# Altium footprint library Connectors.PcbLib: 73 footprints (part 1 of 5)
Each footprint in its own frame and in the unit in brackets; x right, y up, seen from the top. Pads: shape width x height; smd on the part's side, far side on the other; paste and mask are expansions set on the pad; w line width, h text height; cw(c..) or ccw(c..) is an arc to the next point about the centre after c.
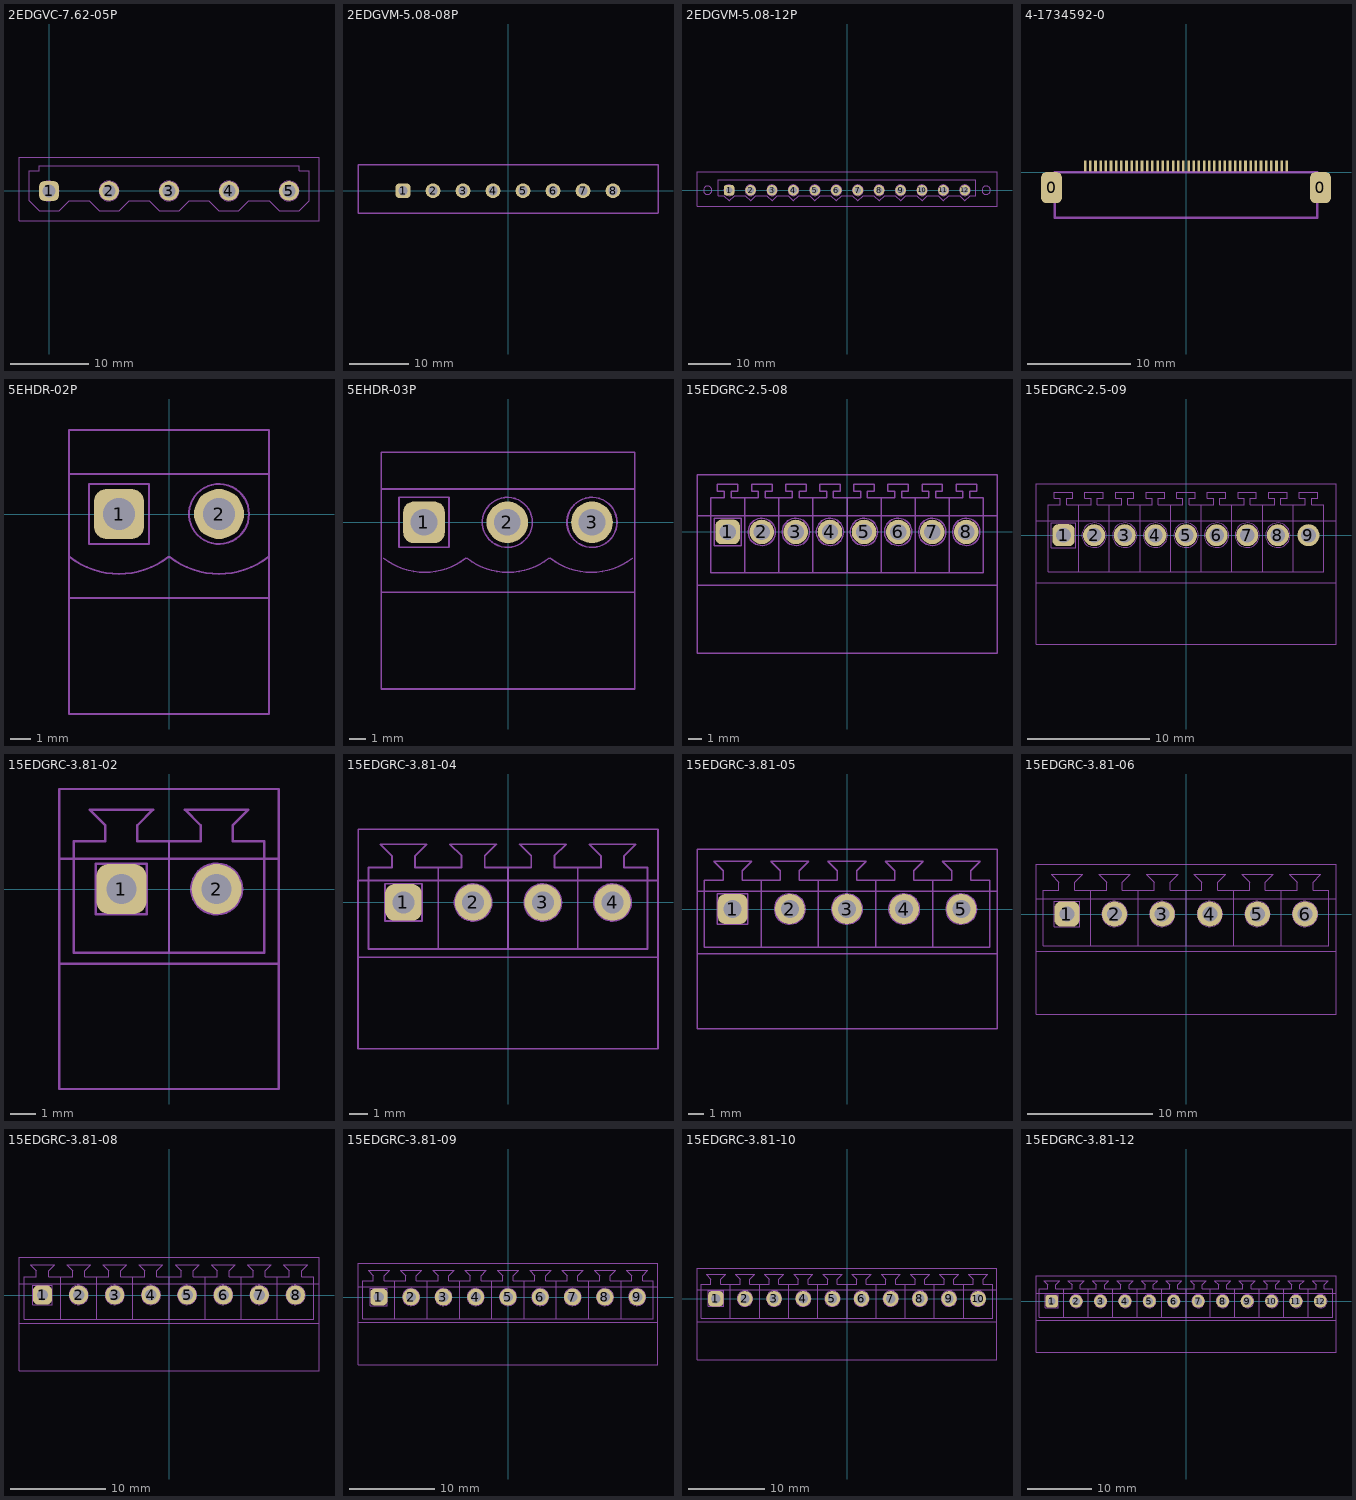
[diagram p0: the footprints below, top view; thin cyan lines are the x and y axes]

## 2EDGVC-7.62-05P [mm]
pads (5):
  rrect50% 2.5x2.5 hole 1.6: 1(0,0)
  round 2.5 hole 1.6: 2(7.62,0) 3(15.24,0) 4(22.86,0) 5(30.48,0)
Mechanical 1:
  lines w0.1: -3.81,4.3 -3.81,-3.81 34.29,-3.81 34.29,4.3 ; -3.81,4.31 34.29,4.31 ; -2.54,-1.27 -1.27,-2.54 1.27,-2.54 2.54,-1.27 5.08,-1.27 6.35,-2.54 8.89,-2.54 10.16,-1.27 12.7,-1.27 13.97,-2.54 16.51,-2.54 17.78,-1.27 20.32,-1.27 21.59,-2.54 24.13,-2.54 25.4,-1.27 27.94,-1.27 29.21,-2.54 31.75,-2.54 33.02,-1.27 33.02,2.54 31.75,2.54 31.75,3.175 -1.27,3.175 -1.27,2.54 -2.54,2.54 -2.54,-1.27
Mechanical 4:
  circle w0.1: c0,0 r1.27
  circle w0.1: c7.62,0 r1.27
  circle w0.1: c15.24,0 r1.27
  circle w0.1: c22.86,0 r1.27
  circle w0.1: c30.48,0 r1.27
3D body: height 12, standoff 0, extent 1.27,3.04 6.35,4.31
3D body: height 12, standoff 0, extent 8.89,3.04 13.97,4.31
3D body: height 12, standoff 0, extent 16.51,3.04 21.59,4.31
3D body: height 12, standoff 0, extent 24.13,3.04 29.21,4.31
3D body: height 12, standoff 0, extent -3.81,-3.81 34.3,4.3
3D body: height 10, standoff 0, extent 29.21,3.04 31.75,4.31
3D body: height 10, standoff 0, extent 21.59,3.04 24.13,4.31
3D body: height 10, standoff 0, extent 13.97,3.04 16.51,4.31
3D body: height 10, standoff 0, extent 6.35,3.04 8.89,4.31
3D body: height 10, standoff 0, extent -1.27,3.04 1.27,4.31
3D body: height 10, standoff 0, extent -0.508,-0.508 0.488,0.49
3D body: height 10, standoff 0, extent 7.112,-0.508 8.108,0.49
3D body: height 10, standoff 0, extent 14.732,-0.508 15.728,0.49
3D body: height 10, standoff 0, extent 22.352,-0.508 23.348,0.49
3D body: height 10, standoff 0, extent 29.972,-0.508 30.968,0.49

## 2EDGVM-5.08-08P [mm]
pads (8):
  rrect50% 2.5x2.5 hole 1.6: 1(-17.78,0)
  round 2.5 hole 1.6: 2(-12.7,0) 3(-7.62,0) 4(-2.54,0) 5(2.54,0) 6(7.62,0) 7(12.7,0) 8(17.78,0)
Mechanical 1:
  lines w0.254: -25.4,-3.8 25.4,-3.8 25.4,4.4 -25.4,4.4 -25.4,-3.8
3D body: height 10, standoff 0, extent -18.796,3.556 -16.764,4.318
3D body: height 10, standoff 0, extent -13.716,3.556 -11.684,4.318
3D body: height 10, standoff 0, extent -8.636,3.556 -6.604,4.318
3D body: height 10, standoff 0, extent -3.556,3.556 -1.524,4.318
3D body: height 10, standoff 0, extent 1.524,3.556 3.556,4.318
3D body: height 10, standoff 0, extent 6.604,3.556 8.636,4.318
3D body: height 10, standoff 0, extent 11.684,3.556 13.716,4.318
3D body: height 10, standoff 0, extent 16.764,3.556 18.796,4.318
3D body: height 12, standoff 0, extent -25.4,-3.81 25.4,4.318
3D body: height 12, standoff 0, extent -16.764,3.048 -13.716,4.318
3D body: height 12, standoff 0, extent -11.684,3.048 -8.636,4.318
3D body: height 12, standoff 0, extent -6.604,3.048 -3.556,4.318
3D body: height 12, standoff 0, extent -1.524,3.048 1.524,4.318
3D body: height 12, standoff 0, extent 3.556,3.048 6.604,4.318
3D body: height 12, standoff 0, extent 8.636,3.048 11.684,4.318
3D body: height 12, standoff 0, extent 13.716,3.048 16.764,4.318
3D body: height 12, standoff 0, extent 18.796,3.048 20.32,4.318
3D body: height 12, standoff 0, extent -20.32,3.048 -18.796,4.318

## 2EDGVM-5.08-12P [mm]
pads (12):
  rrect50% 2.5x2.5 hole 1.6: 1(-27.94,0)
  round 2.5 hole 1.6: 2(-22.86,0) 3(-17.78,0) 4(-12.7,0) 5(-7.62,0) 6(-2.54,0) 7(2.54,0) 8(7.62,0) 9(12.7,0) 10(17.78,0) 11(22.86,0) 12(27.94,0)
Mechanical 1:
  circle w0.1: c33.02,0 r1
  circle w0.1: c-33.02,0 r1
  lines w0.1: -35.56,-3.8 35.56,-3.8 35.56,4.4 -35.56,4.4 -35.56,-3.8 ; -30.48,-1.27 -29.21,-1.27 -27.94,-2.54 -26.67,-1.27 -24.13,-1.27 -22.86,-2.54 -21.59,-1.27 -19.05,-1.27 -17.78,-2.54 -16.51,-1.27 -13.97,-1.27 -12.7,-2.54 -11.43,-1.27 -8.89,-1.27 -7.62,-2.54 -6.35,-1.27 -3.81,-1.27 -2.54,-2.54 -1.27,-1.27 1.27,-1.27 2.54,-2.54 3.81,-1.27 6.35,-1.27 7.62,-2.54 8.89,-1.27 11.43,-1.27 12.7,-2.54 13.97,-1.27 16.51,-1.27 17.78,-2.54 19.05,-1.27 21.59,-1.27 22.86,-2.54 24.13,-1.27 26.67,-1.27 27.94,-2.54 29.21,-1.27 30.48,-1.27 30.48,2.54 -30.48,2.54 -30.48,-1.27
Mechanical 4:
  circle w0.1: c17.78,0 r1.27
  circle w0.1: c22.86,0 r1.27
  circle w0.1: c27.94,0 r1.27
  circle w0.1: c2.54,0 r1.27
  circle w0.1: c7.62,0 r1.27
  circle w0.1: c12.7,0 r1.27
  circle w0.1: c-12.7,0 r1.27
  circle w0.1: c-7.62,0 r1.27
  circle w0.1: c-2.54,0 r1.27
  circle w0.1: c-17.78,0 r1.27
  circle w0.1: c-22.86,0 r1.27
  circle w0.1: c-27.94,0 r1.27
3D body: height 12, standoff 0, extent 13.716,3.048 16.764,4.318
3D body: height 10, standoff 0, extent 16.764,3.556 18.796,4.318
3D body: height 12, standoff 0, extent 8.636,3.048 11.684,4.318
3D body: height 10, standoff 0, extent 11.684,3.556 13.716,4.318
3D body: height 12, standoff 0, extent 3.556,3.048 6.604,4.318
3D body: height 10, standoff 0, extent 6.604,3.556 8.636,4.318
3D body: height 12, standoff 0, extent -1.524,3.048 1.524,4.318
3D body: height 10, standoff 0, extent 1.524,3.556 3.556,4.318
3D body: height 10, standoff 0, extent -28.956,3.556 -26.924,4.318
3D body: height 10, standoff 0, extent -23.876,3.556 -21.844,4.318
3D body: height 10, standoff 0, extent -18.796,3.556 -16.764,4.318
3D body: height 10, standoff 0, extent -13.716,3.556 -11.684,4.318
3D body: height 10, standoff 0, extent -8.636,3.556 -6.604,4.318
3D body: height 10, standoff 0, extent -3.556,3.556 -1.524,4.318
3D body: height 10, standoff 0, extent 21.844,3.556 23.876,4.318
3D body: height 10, standoff 0, extent 26.924,3.556 28.956,4.318
3D body: height 12, standoff 0, extent -35.56,-3.81 35.56,4.445
3D body: height 12, standoff 0, extent -26.924,3.048 -23.876,4.318
3D body: height 12, standoff 0, extent -21.844,3.048 -18.796,4.318
3D body: height 12, standoff 0, extent -16.764,3.048 -13.716,4.318
3D body: height 12, standoff 0, extent -11.684,3.048 -8.636,4.318
3D body: height 12, standoff 0, extent -6.604,3.048 -3.556,4.318
3D body: height 12, standoff 0, extent 18.796,3.048 21.844,4.318
3D body: height 12, standoff 0, extent 23.876,3.048 26.924,4.318
3D body: height 12, standoff 0, extent 28.956,3.048 30.48,4.318
3D body: height 12, standoff 0, extent -30.48,3.048 -28.956,4.318

## 4-1734592-0 [mm]
pads (42):
  rrect50% 2x3 smd: 0(-13,-1.5) 0(13,-1.5)
  rect 0.25x1.1 smd: 1(-9.75,0.6) 2(-9.25,0.6) 3(-8.75,0.6) 4(-8.25,0.6) 5(-7.75,0.6) 6(-7.25,0.6) 7(-6.75,0.6) 8(-6.25,0.6) 9(-5.75,0.6) 10(-5.25,0.6) 11(-4.75,0.6) 12(-4.25,0.6) 13(-3.75,0.6) 14(-3.25,0.6) 15(-2.75,0.6) 16(-2.25,0.6) 17(-1.75,0.6) 18(-1.25,0.6) 19(-0.75,0.6) 20(-0.25,0.6) 21(0.25,0.6) 22(0.75,0.6) 23(1.25,0.6) 24(1.75,0.6) 25(2.25,0.6) 26(2.75,0.6) 27(3.25,0.6) 28(3.75,0.6) 29(4.25,0.6) 30(4.75,0.6) 31(5.25,0.6) 32(5.75,0.6) 33(6.25,0.6) 34(6.75,0.6) 35(7.25,0.6) 36(7.75,0.6) 37(8.25,0.6) 38(8.75,0.6) 39(9.25,0.6) 40(9.75,0.6)
Mechanical 1:
  lines w0.254: -12.7,-4.4 12.7,-4.4 12.7,0 -12.7,0 -12.7,-4.4
3D body: height 2, standoff 0, extent -12.7,-4.4 12.7,0

## 5EHDR-02P [mm]
pads (2):
  rrect50% 2.5x2.5 hole 1.6: 1(-2.5,0)
  round 2.5 hole 1.6: 2(2.5,0)
Mechanical 1:
  lines w0.1: -5,-4.2 5,-4.2 ; -4.963,-2.152 ccw(c-2.5,1) -0.037,-2.152 ; 0.037,-2.152 ccw(c2.5,1) 4.963,-2.152 ; -5,2 5,2 ; -5,2 -5,-10 5,-10 5,2 ; -5,2 -5,4.2 5,4.2 5,2
  text ".Designator" at -3,-6 h1
Mechanical 4:
  circle w0.1: c2.5,0 r1.5
  lines w0.1: -4,-1.5 -4,1.5 -1,1.5 -1,-1.5 -4,-1.5
3D body: height 12, standoff 7, extent -1,4.2 1,8
3D body: height 22, standoff 12, extent -5,-4.2 5,11.7
3D body: height 4.5, standoff 3.5, extent 2.004,-7.5 3,0.5
3D body: height 4.5, standoff 3.5, extent -2.996,-7.5 -2,0.5
3D body: height 4, standoff -2, extent 2.004,-0.499 3,0.499
3D body: height 4, standoff -2, extent -2.996,-0.499 -2,0.499
3D body: height 9, standoff 0, extent -5,-2 5,-1.5
3D body: height 9, standoff 0, extent -5,1.5 5,2
3D body: height 1, standoff 0, extent -5,-10 5,2
3D body: height 9, standoff 8, extent -5,-10 5,2
3D body: height 12, standoff 0, extent -5,-3.2 5,4.2

## 5EHDR-03P [mm]
pads (3):
  rrect50% 2.5x2.5 hole 1.6: 1(-5.04,0)
  round 2.5 hole 1.6: 2(-0.04,0) 3(5.04,0)
Mechanical 1:
  lines w0.1: -7.6,-4.2 7.6,-4.2 ; -7.463,-2.152 ccw(c-5,1) -2.537,-2.152 ; -2.463,-2.152 ccw(c0,1) 2.463,-2.152 ; 2.537,-2.152 ccw(c5,1) 7.463,-2.152 ; -7.6,2 -7.6,4.2 7.6,4.2 7.6,2 ; -7.6,2 7.6,2 ; -7.6,2 -7.6,-10 7.6,-10 7.6,2
  text ".Designator" at -5.54,-6 h1
Mechanical 4:
  circle w0.1: c5.04,0 r1.5
  circle w0.1: c-0.04,0 r1.5
  lines w0.1: -6.54,-1.5 -6.54,1.5 -3.54,1.5 -3.54,-1.5 -6.54,-1.5
3D body: height 12, standoff 7, extent -1,4.2 1,8
3D body: height 12, standoff 0, extent -7.6,-4.2 7.6,4.2
3D body: height 4, standoff -2, extent 4.544,-0.499 5.54,0.499
3D body: height 4.5, standoff 3.5, extent 4.544,-7.5 5.54,0.5
3D body: height 4.5, standoff 3.5, extent -0.536,-7.5 0.46,0.5
3D body: height 4.5, standoff 3.5, extent -5.536,-7.5 -4.54,0.5
3D body: height 4, standoff -2, extent -0.536,-0.499 0.46,0.499
3D body: height 4, standoff -2, extent -5.536,-0.499 -4.54,0.499
3D body: height 9, standoff 0, extent -7.54,-2 7.5,-1.5
3D body: height 9, standoff 0, extent -7.54,1.5 7.5,2
3D body: height 1, standoff 0, extent -7.54,-10 7.5,2
3D body: height 9, standoff 8, extent -7.54,-10 7.56,2
3D body: height 22, standoff 12, extent -7.6,-4.2 7.6,11.7

## 15EDGRC-2.5-08 [mm]
pads (8):
  rrect50% 1.8x1.8 hole 1.2: 1(-8.75,0)
  round 1.8 hole 1.2: 2(-6.25,0) 3(-3.75,0) 4(-1.25,0) 5(1.25,0) 6(3.75,0) 7(6.25,0) 8(8.75,0)
Mechanical 1:
  lines w0.1: -11,-3.9 11,-3.9 ; -11,1.2 11,1.2 ; -11,1.2 -11,-8.9 11,-8.9 11,1.2 ; -11,1.2 -11,4.2 ; -11,4.2 -11,4.2 ; -11,4.2 11,4.2 11,1.2 ; -7.5,-3 -10,-3 -10,2.5 -9,2.5 -9,3 -9.5,3 -9.5,3.5 -8,3.5 -8,3 -8.5,3 -8.5,2.5 -7.5,2.5 ; -7.5,-3 -7.5,2.5 ; -7.5,-3 -7.5,2.5 ; -7.5,-3 -5,-3 ; -7.5,2.5 -6.5,2.5 -6.5,3 -7,3 -7,3.5 -5.5,3.5 -5.5,3 -6,3 -6,2.5 -5,2.5 ; -5,-3 -5,2.5 ; -5,-3 -5,2.5 ; -5,-3 -2.5,-3 ; -5,2.5 -4,2.5 -4,3 -4.5,3 -4.5,3.5 -3,3.5 -3,3 -3.5,3 -3.5,2.5 -2.5,2.5 ; -2.5,-3 -2.5,2.5 ; -2.5,-3 -2.5,2.5 ; -2.5,-3 0,-3 ; -2.5,2.5 -1.5,2.5 -1.5,3 -2,3 -2,3.5 -0.5,3.5 -0.5,3 -1,3 -1,2.5 0,2.5 ; 0,-3 0,2.5 ; 0,-3 0,2.5 ; 0,-3 2.5,-3 ; 0,2.5 1,2.5 1,3 0.5,3 0.5,3.5 2,3.5 2,3 1.5,3 1.5,2.5 2.5,2.5 ; 2.5,-3 2.5,2.5 ; 2.5,-3 2.5,2.5 ; 2.5,-3 5,-3 ; 2.5,2.5 3.5,2.5 3.5,3 3,3 3,3.5 4.5,3.5 4.5,3 4,3 4,2.5 5,2.5 ; 5,-3 5,2.5 ; 5,-3 5,2.5 ; 5,-3 7.5,-3 ; 5,2.5 6,2.5 6,3 5.5,3 5.5,3.5 7,3.5 7,3 6.5,3 6.5,2.5 7.5,2.5 ; 7.5,-3 7.5,2.5 ; 7.5,-3 7.5,2.5 ; 7.5,-3 10,-3 10,2.5 9,2.5 9,3 9.5,3 9.5,3.5 8,3.5 8,3 8.5,3 8.5,2.5 7.5,2.5
Mechanical 4:
  circle w0.1: c3.75,0 r1
  circle w0.1: c1.25,0 r1
  circle w0.1: c-1.25,0 r1
  circle w0.1: c-3.75,0 r1
  circle w0.1: c-6.25,0 r1
  circle w0.1: c6.25,0 r1
  circle w0.1: c8.75,0 r1
  lines w0.1: -9.75,-1.016 -9.25,-1.016 -8.25,-1.016 -7.75,-1.016 -7.75,1.016 -9.75,1.016 -9.75,-1.016
Mechanical 13:
  text ".Designator" at -6.35,-6.985 h1
3D body: height 7, standoff 5, extent 7.3,-8.9 7.7,1.2
3D body: height 7, standoff 5, extent 4.8,-8.9 5.2,1.2
3D body: height 7, standoff 5, extent 2.3,-8.9 2.7,1.2
3D body: height 7, standoff 5, extent -7.7,-8.9 -7.3,1.2
3D body: height 7, standoff 5, extent -5.2,-8.9 -4.8,1.2
3D body: height 7, standoff 5, extent -2.7,-8.9 -2.3,1.2
3D body: height 7, standoff 1, extent 10.6,-8.9 11,1.2
3D body: height 7, standoff 1, extent -11,-8.9 -10.6,1.2
3D body: height 3.5, standoff 2.5, extent 3.25,-8 4.246,0
3D body: height 3.5, standoff 2.5, extent 0.754,-8 1.75,0
3D body: height 3.5, standoff 2.5, extent -1.75,-8 -0.754,0
3D body: height 3.5, standoff 2.5, extent -4.25,-8 -3.254,0
3D body: height 3.5, standoff 2.5, extent -6.746,-8 -5.75,0
3D body: height 3.5, standoff 2.5, extent -9.246,-8 -8.25,0
3D body: height 7, standoff 1, extent -11,0.8 11,1.2
3D body: height 7, standoff 5, extent -0.2,-8.9 0.2,1.2
3D body: height 8, standoff 7, extent -11,-8.9 11,1.2
3D body: height 1, standoff 0, extent -11,-8.9 11,1.2
3D body: height 3.5, standoff 2.5, extent 5.754,-8 6.75,0
3D body: height 3.5, standoff 2.5, extent 8.25,-8 9.246,0
3D body: height 10, standoff 0, extent -11,-3.9 11,4.2
3D body: height 25, standoff 10, extent -11,-3.9 11,7.7

## 15EDGRC-2.5-09 [mm]
pads (9):
  rrect50% 1.8x1.8 hole 1.2: 1(-10,0)
  round 1.8 hole 1.2: 2(-7.5,0) 3(-5,0) 4(-2.5,0) 5(0,0) 6(2.5,0) 7(5,0) 8(7.5,0) 9(10,0)
Mechanical 1:
  lines w0.1: -12.25,-3.9 12.25,-3.9 ; -12.25,1.2 -12.25,4.2 ; -12.25,1.2 -12.25,-8.9 12.25,-8.9 12.25,1.2 ; -12.25,1.2 12.25,1.2 ; -12.25,4.2 12.25,4.2 12.25,1.2 ; -12.25,4.2 -12.25,4.2 ; -8.75,-3 -6.25,-3 ; -8.75,-3 -8.75,2.5 ; -8.75,-3 -8.75,2.5 ; -8.75,-3 -11.25,-3 -11.25,2.5 -10.25,2.5 -10.25,3 -10.75,3 -10.75,3.5 -9.25,3.5 -9.25,3 -9.75,3 -9.75,2.5 -8.75,2.5 ; -8.75,2.5 -7.75,2.5 -7.75,3 -8.25,3 -8.25,3.5 -6.75,3.5 -6.75,3 -7.25,3 -7.25,2.5 -6.25,2.5 ; -6.25,-3 -3.75,-3 ; -6.25,-3 -6.25,2.5 ; -6.25,-3 -6.25,2.5 ; -6.25,2.5 -5.25,2.5 -5.25,3 -5.75,3 -5.75,3.5 -4.25,3.5 -4.25,3 -4.75,3 -4.75,2.5 -3.75,2.5 ; -3.75,-3 -1.25,-3 ; -3.75,-3 -3.75,2.5 ; -3.75,-3 -3.75,2.5 ; -3.75,2.5 -2.75,2.5 -2.75,3 -3.25,3 -3.25,3.5 -1.75,3.5 -1.75,3 -2.25,3 -2.25,2.5 -1.25,2.5 ; -1.25,-3 1.25,-3 ; -1.25,-3 -1.25,2.5 ; -1.25,-3 -1.25,2.5 ; -1.25,2.5 -0.25,2.5 -0.25,3 -0.75,3 -0.75,3.5 0.75,3.5 0.75,3 0.25,3 0.25,2.5 1.25,2.5 ; 1.25,-3 3.75,-3 ; 1.25,-3 1.25,2.5 ; 1.25,-3 1.25,2.5 ; 1.25,2.5 2.25,2.5 2.25,3 1.75,3 1.75,3.5 3.25,3.5 3.25,3 2.75,3 2.75,2.5 3.75,2.5 ; 3.75,-3 6.25,-3 ; 3.75,-3 3.75,2.5 ; 3.75,-3 3.75,2.5 ; 3.75,2.5 4.75,2.5 4.75,3 4.25,3 4.25,3.5 5.75,3.5 5.75,3 5.25,3 5.25,2.5 6.25,2.5 ; 6.25,-3 8.75,-3 ; 6.25,-3 6.25,2.5 ; 6.25,-3 6.25,2.5 ; 6.25,2.5 7.25,2.5 7.25,3 6.75,3 6.75,3.5 8.25,3.5 8.25,3 7.75,3 7.75,2.5 8.75,2.5 ; 8.75,-3 8.75,2.5 ; 8.75,-3 11.25,-3 11.25,2.5 10.25,2.5 10.25,3 10.75,3 10.75,3.5 9.25,3.5 9.25,3 9.75,3 9.75,2.5 8.75,2.5 ; 8.75,-3 8.75,2.5
Mechanical 4:
  circle w0.1: c7.5,0 r1
  circle w0.1: c5,0 r1
  circle w0.1: c-7.5,0 r1
  circle w0.1: c-5,0 r1
  circle w0.1: c-2.5,0 r1
  circle w0.1: c0,0 r1
  circle w0.1: c2.5,0 r1
  lines w0.1: -11,-1.016 -11,1.016 -9,1.016 -9,-1.016 -9.5,-1.016 -10.5,-1.016 -11,-1.016
Mechanical 13:
  text ".Designator" at -7.6,-6.985 h1
3D body: height 25, standoff 10, extent -12.25,-3.9 12.25,7.75
3D body: height 10, standoff 0, extent -12.25,-3.9 12.25,4.2
3D body: height 3.5, standoff 2.5, extent 7,-8 7.996,0
3D body: height 3.5, standoff 2.5, extent 4.504,-8 5.5,0
3D body: height 1, standoff 0, extent -12.25,-8.9 12.25,1.2
3D body: height 8, standoff 7, extent -12.25,-8.9 12.25,1.2
3D body: height 7, standoff 5, extent -1.45,-8.9 -1.05,1.2
3D body: height 7, standoff 1, extent -12.25,0.8 9.75,1.2
3D body: height 3.5, standoff 2.5, extent -10.496,-8 -9.5,0
3D body: height 3.5, standoff 2.5, extent -7.996,-8 -7,0
3D body: height 3.5, standoff 2.5, extent -5.5,-8 -4.504,0
3D body: height 3.5, standoff 2.5, extent -3,-8 -2.004,0
3D body: height 3.5, standoff 2.5, extent -0.496,-8 0.5,0
3D body: height 3.5, standoff 2.5, extent 2,-8 2.996,0
3D body: height 7, standoff 1, extent -12.25,-8.9 -11.85,1.2
3D body: height 7, standoff 1, extent 11.85,-8.9 12.25,1.2
3D body: height 7, standoff 5, extent -3.95,-8.9 -3.55,1.2
3D body: height 7, standoff 5, extent -6.45,-8.9 -6.05,1.2
3D body: height 7, standoff 5, extent -8.95,-8.9 -8.55,1.2
3D body: height 7, standoff 5, extent 1.05,-8.9 1.45,1.2
3D body: height 7, standoff 5, extent 3.55,-8.9 3.95,1.2
3D body: height 7, standoff 5, extent 6.05,-8.9 6.45,1.2
3D body: height 3.5, standoff 2.5, extent 9.5,-8 10.496,0
3D body: height 7, standoff 5, extent 8.55,-8.9 8.95,1.2

## 15EDGRC-3.81-02 [mm]
pads (2):
  rrect50% 2x2 hole 1.2: 1(-1.905,0)
  round 2 hole 1.2: 2(1.905,0)
Mechanical 1:
  lines w0.1: -4.4,-3 4.4,-3 ; -4.4,1.2 -4.4,4 4.4,4 4.4,1.2 ; -4.4,1.2 -4.4,-8 4.4,-8 4.4,1.2 ; -4.4,1.2 4.4,1.2 ; 0,-2.54 0,1.905 ; 0,-2.54 3.81,-2.54 3.81,1.905 2.54,1.905 2.54,2.54 3.175,3.175 0.635,3.175 1.27,2.54 1.27,1.905 0,1.905 ; 0,-2.54 -3.81,-2.54 -3.81,1.905 -2.54,1.905 -2.54,2.54 -3.175,3.175 -0.635,3.175 -1.27,2.54 -1.27,1.905 0,1.905 ; 0,-2.54 0,1.905
Mechanical 4:
  circle w0.1: c1.905,0 r1.016
  lines w0.1: -2.921,-1.016 -0.889,-1.016 -0.889,1.016 -2.921,1.016 -2.921,-1.016
Mechanical 13:
  text ".Designator" at -2.5,-6.5 h1
3D body: height 19, standoff 9, extent -4.4,-5 4.4,4.5
3D body: height 9.2, standoff 0, extent -4.4,-3 4.4,4
3D body: height 1, standoff 0, extent -4.38,-8 4.4,1.2
3D body: height 7, standoff 6, extent -4.38,-8 4.4,1.2
3D body: height 6, standoff 1, extent -0.254,-7.874 0.254,1.016
3D body: height 6, standoff 1, extent 3.856,-7.874 4.364,1.016
3D body: height 6, standoff 1, extent -4.318,-7.874 -3.81,1.016
3D body: height 6, standoff 1, extent -4.38,0.8 4.4,1.2
3D body: height 3.5, standoff 2.5, extent -2.38,-8 -1.384,0
3D body: height 3.5, standoff 2.5, extent 1.422,-8 2.418,0

## 15EDGRC-3.81-04 [mm]
pads (4):
  rrect50% 2x2 hole 1.2: 1(-5.715,0)
  round 2 hole 1.2: 2(-1.905,0) 3(1.905,0) 4(5.715,0)
Mechanical 1:
  lines w0.1: -8.2,-3 8.2,-3 ; -8.19,1.21 -8.19,4 8.2,4 8.2,1.2 ; -3.81,-2.54 -7.62,-2.54 -7.62,1.905 -6.35,1.905 -6.35,2.54 -6.985,3.175 -4.445,3.175 -5.08,2.54 -5.08,1.905 -3.81,1.905 ; -3.81,-2.54 -3.81,1.905 ; -3.81,-2.54 -3.81,1.905 ; -3.81,-2.54 0,-2.54 ; -3.81,1.905 -2.54,1.905 -2.54,2.54 -3.175,3.175 -0.635,3.175 -1.27,2.54 -1.27,1.905 0,1.905 ; 0,-2.54 0,1.905 ; 0,-2.54 0,1.905 ; 0,-2.54 3.81,-2.54 ; 0,1.905 1.27,1.905 1.27,2.54 0.635,3.175 3.175,3.175 2.54,2.54 2.54,1.905 3.81,1.905 ; 3.81,-2.54 3.81,1.905 ; 3.81,-2.54 3.81,1.905 ; 3.81,-2.54 7.62,-2.54 7.62,1.905 6.35,1.905 6.35,2.54 6.985,3.175 4.445,3.175 5.08,2.54 5.08,1.905 3.81,1.905 ; 8.2,1.2 -8.2,1.2 -8.2,-8 8.2,-8 8.2,1.2
Mechanical 4:
  circle w0.1: c-1.905,0 r1.016
  circle w0.1: c1.905,0 r1.016
  circle w0.1: c5.715,0 r1.016
  lines w0.1: -6.731,-1.016 -4.699,-1.016 -4.699,1.016 -6.731,1.016 -6.731,-1.016
Mechanical 13:
  text ".Designator" at 1.27,-6.985 h1
3D body: height 19, standoff 9, extent -8.2,-5 8.2,4.5
3D body: height 9.2, standoff 0, extent -8.2,-3 8.2,4
3D body: height 1, standoff 0, extent -8.19,-8 8.2,1.2
3D body: height 7, standoff 6, extent -8.19,-8 8.2,1.2
3D body: height 6, standoff 1, extent -4.064,-7.874 -3.556,1.016
3D body: height 6, standoff 1, extent -0.254,-7.874 0.254,1.016
3D body: height 6, standoff 1, extent 3.556,-7.874 4.064,1.016
3D body: height 6, standoff 1, extent 7.666,-7.874 8.174,1.016
3D body: height 6, standoff 1, extent -8.128,-7.874 -7.62,1.016
3D body: height 6, standoff 1, extent -8.19,0.8 8.2,1.2
3D body: height 3.5, standoff 2.5, extent -6.19,-8 -5.194,0
3D body: height 3.5, standoff 2.5, extent -2.388,-8 -1.392,0
3D body: height 3.5, standoff 2.5, extent 1.41,-8 2.406,0
3D body: height 3.5, standoff 2.5, extent 5.21,-8 6.206,0

## 15EDGRC-3.81-05 [mm]
pads (5):
  rrect50% 2x2 hole 1.2: 1(-7.62,0)
  round 2 hole 1.2: 2(-3.81,0) 3(0,0) 4(3.81,0) 5(7.62,0)
Mechanical 1:
  lines w0.1: -10,-3 10,-3 ; -10,1.2 10,1.2 ; -10,1.2 -10,-8 10,-8 10,1.2 ; -10,1.2 -10,4 10,4 10,1.2 ; -5.715,-2.54 -1.905,-2.54 ; -5.715,-2.54 -5.715,1.905 ; -5.715,-2.54 -9.525,-2.54 -9.525,1.905 -8.255,1.905 -8.255,2.54 -8.89,3.175 -6.35,3.175 -6.985,2.54 -6.985,1.905 -5.715,1.905 ; -5.715,-2.54 -5.715,1.905 ; -5.715,1.905 -4.445,1.905 -4.445,2.54 -5.08,3.175 -2.54,3.175 -3.175,2.54 -3.175,1.905 -1.905,1.905 ; -1.905,-2.54 1.905,-2.54 ; -1.905,-2.54 -1.905,1.905 ; -1.905,-2.54 -1.905,1.905 ; -1.905,1.905 -0.635,1.905 -0.635,2.54 -1.27,3.175 1.27,3.175 0.635,2.54 0.635,1.905 1.905,1.905 ; 1.905,-2.54 5.715,-2.54 ; 1.905,-2.54 1.905,1.905 ; 1.905,-2.54 1.905,1.905 ; 1.905,1.905 3.175,1.905 3.175,2.54 2.54,3.175 5.08,3.175 4.445,2.54 4.445,1.905 5.715,1.905 ; 5.715,-2.54 9.525,-2.54 9.525,1.905 8.255,1.905 8.255,2.54 8.89,3.175 6.35,3.175 6.985,2.54 6.985,1.905 5.715,1.905 ; 5.715,-2.54 5.715,1.905 ; 5.715,-2.54 5.715,1.905
Mechanical 4:
  circle w0.1: c7.62,0 r1.016
  circle w0.1: c3.81,0 r1.016
  circle w0.1: c0,0 r1.016
  circle w0.1: c-3.81,0 r1.016
  lines w0.1: -8.636,-1.016 -8.636,1.016 -6.604,1.016 -6.604,-1.016 -8.636,-1.016
Mechanical 13:
  text ".Designator" at -0.635,-6.985 h1
3D body: height 19, standoff 9, extent -10,-6 10,4.5
3D body: height 3.5, standoff 2.5, extent 7.105,-8 8.101,0
3D body: height 3.5, standoff 2.5, extent 3.305,-8 4.301,0
3D body: height 3.5, standoff 2.5, extent -0.495,-8 0.501,0
3D body: height 3.5, standoff 2.5, extent -4.293,-8 -3.297,0
3D body: height 3.5, standoff 2.5, extent -8.095,-8 -7.099,0
3D body: height 6, standoff 1, extent -10,0.8 10,1.2
3D body: height 6, standoff 1, extent -10.033,-7.874 -9.525,1.016
3D body: height 6, standoff 1, extent 9.471,-7.874 9.979,1.016
3D body: height 6, standoff 1, extent 5.461,-7.874 5.969,1.016
3D body: height 6, standoff 1, extent 1.651,-7.874 2.159,1.016
3D body: height 6, standoff 1, extent -2.159,-7.874 -1.651,1.016
3D body: height 6, standoff 1, extent -5.969,-7.874 -5.461,1.016
3D body: height 7, standoff 6, extent -10,-8 10,1.2
3D body: height 1, standoff 0, extent -10,-8 10,1.2
3D body: height 9.2, standoff 0, extent -10,-3 10,4

## 15EDGRC-3.81-06 [mm]
pads (6):
  rrect50% 2x2 hole 1.2: 1(-9.525,0)
  round 2 hole 1.2: 2(-5.715,0) 3(-1.905,0) 4(1.905,0) 5(5.715,0) 6(9.525,0)
Mechanical 1:
  lines w0.1: -12,-3 12,-3 ; -12,1.2 -12,4 12,4 12,1.2 ; -12,1.2 12,1.2 ; -12,1.2 -12,-8 12,-8 12,1.2 ; -7.62,-2.54 -3.81,-2.54 ; -7.62,-2.54 -7.62,1.905 ; -7.62,-2.54 -11.43,-2.54 -11.43,1.905 -10.16,1.905 -10.16,2.54 -10.795,3.175 -8.255,3.175 -8.89,2.54 -8.89,1.905 -7.62,1.905 ; -7.62,-2.54 -7.62,1.905 ; -7.62,1.905 -6.35,1.905 -6.35,2.54 -6.985,3.175 -4.445,3.175 -5.08,2.54 -5.08,1.905 -3.81,1.905 ; -3.81,-2.54 0,-2.54 ; -3.81,-2.54 -3.81,1.905 ; -3.81,-2.54 -3.81,1.905 ; -3.81,1.905 -2.54,1.905 -2.54,2.54 -3.175,3.175 -0.635,3.175 -1.27,2.54 -1.27,1.905 0,1.905 ; 0,-2.54 3.81,-2.54 ; 0,-2.54 0,1.905 ; 0,-2.54 0,1.905 ; 0,1.905 1.27,1.905 1.27,2.54 0.635,3.175 3.175,3.175 2.54,2.54 2.54,1.905 3.81,1.905 ; 3.81,-2.54 7.62,-2.54 ; 3.81,-2.54 3.81,1.905 ; 3.81,-2.54 3.81,1.905 ; 3.81,1.905 5.08,1.905 5.08,2.54 4.445,3.175 6.985,3.175 6.35,2.54 6.35,1.905 7.62,1.905 ; 7.62,-2.54 11.43,-2.54 11.43,1.905 10.16,1.905 10.16,2.54 10.795,3.175 8.255,3.175 8.89,2.54 8.89,1.905 7.62,1.905 ; 7.62,-2.54 7.62,1.905 ; 7.62,-2.54 7.62,1.905
Mechanical 4:
  circle w0.1: c9.525,0 r1.016
  circle w0.1: c5.715,0 r1.016
  circle w0.1: c1.905,0 r1.016
  circle w0.1: c-1.905,0 r1.016
  circle w0.1: c-5.715,0 r1.016
  lines w0.1: -10.541,-1.016 -10.541,1.016 -8.509,1.016 -8.509,-1.016 -10.541,-1.016
Mechanical 13:
  text ".Designator" at -2.54,-6.985 h1
3D body: height 19, standoff 9, extent -12,-6 12,4.5
3D body: height 9.2, standoff 0, extent -12,-3 12,4
3D body: height 3.5, standoff 2.5, extent 9,-8 9.996,0
3D body: height 3.5, standoff 2.5, extent 5.2,-8 6.196,0
3D body: height 3.5, standoff 2.5, extent 1.4,-8 2.396,0
3D body: height 3.5, standoff 2.5, extent -2.4,-8 -1.404,0
3D body: height 3.5, standoff 2.5, extent -6.198,-8 -5.202,0
3D body: height 3.5, standoff 2.5, extent -10,-8 -9.004,0
3D body: height 6, standoff 1, extent -12,0.8 12,1.2
3D body: height 6, standoff 1, extent -11.938,-7.874 -11.43,1.016
3D body: height 6, standoff 1, extent 11.43,-7.874 11.938,1.016
3D body: height 6, standoff 1, extent 7.366,-7.874 7.874,1.016
3D body: height 6, standoff 1, extent 3.556,-7.874 4.064,1.016
3D body: height 6, standoff 1, extent -0.254,-7.874 0.254,1.016
3D body: height 6, standoff 1, extent -4.064,-7.874 -3.556,1.016
3D body: height 6, standoff 1, extent -7.874,-7.874 -7.366,1.016
3D body: height 7, standoff 6, extent -12,-8 12,1.2
3D body: height 1, standoff 0, extent -12,-8 12,1.2

## 15EDGRC-3.81-08 [mm]
pads (8):
  rrect50% 2x2 hole 1.2: 1(-13.335,0)
  round 2 hole 1.2: 2(-9.525,0) 3(-5.715,0) 4(-1.905,0) 5(1.905,0) 6(5.715,0) 7(9.525,0) 8(13.335,0)
Mechanical 1:
  lines w0.1: -15.81,-3 15.81,-3 ; -15.81,1.21 -15.81,4 15.81,4 15.81,1.21 ; -11.43,-2.54 -11.43,1.905 ; -11.43,-2.54 -7.62,-2.54 ; -11.43,-2.54 -15.24,-2.54 -15.24,1.905 -13.97,1.905 -13.97,2.54 -14.605,3.175 -12.065,3.175 -12.7,2.54 -12.7,1.905 -12.065,1.905 -11.43,1.905 ; -11.43,-2.54 -11.43,1.905 ; -11.43,1.905 -10.16,1.905 -10.16,2.54 -10.795,3.175 -8.255,3.175 -8.89,2.54 -8.89,1.905 -8.255,1.905 -7.62,1.905 ; -7.62,-2.54 -7.62,1.905 ; -7.62,-2.54 -3.81,-2.54 ; -7.62,-2.54 -7.62,1.905 ; -7.62,1.905 -6.35,1.905 -6.35,2.54 -6.985,3.175 -4.445,3.175 -5.08,2.54 -5.08,1.905 -4.445,1.905 -3.81,1.905 ; -3.81,-2.54 -3.81,1.905 ; -3.81,-2.54 0,-2.54 ; -3.81,-2.54 -3.81,1.905 ; -3.81,1.905 -2.54,1.905 -2.54,2.54 -3.175,3.175 -0.635,3.175 -1.27,2.54 -1.27,1.905 -0.635,1.905 0,1.905 ; 0,-2.54 0,1.905 ; 0,-2.54 3.81,-2.54 ; 0,-2.54 0,1.905 ; 0,1.905 1.27,1.905 1.27,2.54 0.635,3.175 3.175,3.175 2.54,2.54 2.54,1.905 3.175,1.905 3.81,1.905 ; 3.81,-2.54 3.81,1.905 ; 3.81,-2.54 7.62,-2.54 ; 3.81,-2.54 3.81,1.905 ; 3.81,1.905 5.08,1.905 5.08,2.54 4.445,3.175 6.985,3.175 6.35,2.54 6.35,1.905 6.985,1.905 7.62,1.905 ; 7.62,-2.54 7.62,1.905 ; 7.62,-2.54 11.43,-2.54 ; 7.62,-2.54 7.62,1.905 ; 7.62,1.905 8.89,1.905 8.89,2.54 8.255,3.175 10.795,3.175 10.16,2.54 10.16,1.905 10.795,1.905 11.43,1.905 ; 11.43,-2.54 11.43,1.905 ; 11.43,-2.54 15.24,-2.54 15.24,1.905 14.605,1.905 13.97,1.905 13.97,2.54 14.605,3.175 12.065,3.175 12.7,2.54 12.7,1.905 11.43,1.905 ; 11.43,-2.54 11.43,1.905 ; -15.81,-8 15.81,-8 15.81,1.2 -15.81,1.2 -15.81,-8
Mechanical 4:
  circle w0.1: c5.715,0 r1.016
  circle w0.1: c1.905,0 r1.016
  circle w0.1: c-1.905,0 r1.016
  circle w0.1: c-5.715,0 r1.016
  circle w0.1: c-9.525,0 r1.016
  circle w0.1: c9.525,0 r1.016
  circle w0.1: c13.335,0 r1.016
  lines w0.1: -14.351,-1.016 -14.351,1.016 -12.319,1.016 -12.319,-1.016 -14.351,-1.016
Mechanical 13:
  text ".Designator" at -6.35,-6.985 h1
3D body: height 19, standoff 9, extent -15.81,-6 15.81,4.5
3D body: height 6, standoff 1, extent 15.24,-7.874 15.748,1.016
3D body: height 6, standoff 1, extent -15.748,-7.874 -15.24,1.016
3D body: height 6, standoff 1, extent 11.176,-7.874 11.684,1.016
3D body: height 3.5, standoff 2.5, extent 5.19,-8 6.186,0
3D body: height 3.5, standoff 2.5, extent 1.39,-8 2.386,0
3D body: height 3.5, standoff 2.5, extent -2.41,-8 -1.414,0
3D body: height 3.5, standoff 2.5, extent -6.21,-8 -5.214,0
3D body: height 3.5, standoff 2.5, extent -10.008,-8 -9.012,0
3D body: height 3.5, standoff 2.5, extent -13.81,-8 -12.814,0
3D body: height 6, standoff 1, extent -15.81,0.8 15.8,1.2
3D body: height 6, standoff 1, extent -15.748,-7.874 -15.24,1.016
3D body: height 6, standoff 1, extent 7.62,-7.874 8.128,1.016
3D body: height 6, standoff 1, extent 3.556,-7.874 4.064,1.016
3D body: height 6, standoff 1, extent -0.254,-7.874 0.254,1.016
3D body: height 6, standoff 1, extent -4.064,-7.874 -3.556,1.016
3D body: height 6, standoff 1, extent -7.874,-7.874 -7.366,1.016
3D body: height 6, standoff 1, extent -11.684,-7.874 -11.176,1.016
3D body: height 7, standoff 6, extent -15.81,-8 15.8,1.2
3D body: height 1, standoff 0, extent -15.81,-8 15.8,1.2
3D body: height 3.5, standoff 2.5, extent 9.01,-8 10.006,0
3D body: height 3.5, standoff 2.5, extent 12.81,-8 13.806,0
3D body: height 9.2, standoff 0, extent -15.81,-3 15.81,4

## 15EDGRC-3.81-09 [mm]
pads (9):
  rrect50% 2x2 hole 1.2: 1(-15.24,0)
  round 2 hole 1.2: 2(-11.43,0) 3(-7.62,0) 4(-3.81,0) 5(0,0) 6(3.81,0) 7(7.62,0) 8(11.43,0) 9(15.24,0)
Mechanical 1:
  lines w0.1: -17.695,-3 17.695,-3 ; -17.695,1.2 17.695,1.2 ; -17.695,1.2 -17.695,-8 17.695,-8 17.695,1.2 ; -17.695,1.2 -17.695,4 17.695,4 17.695,1.2 ; -13.335,-2.54 -9.525,-2.54 ; -13.335,-2.54 -13.335,1.905 ; -13.335,-2.54 -17.145,-2.54 -17.145,1.905 -15.875,1.905 -15.875,2.54 -16.51,3.175 -13.97,3.175 -14.605,2.54 -14.605,1.905 -13.335,1.905 ; -13.335,-2.54 -13.335,1.905 ; -13.335,1.905 -12.065,1.905 -12.065,2.54 -12.7,3.175 -10.16,3.175 -10.795,2.54 -10.795,1.905 -9.525,1.905 ; -9.525,-2.54 -5.715,-2.54 ; -9.525,-2.54 -9.525,1.905 ; -9.525,-2.54 -9.525,1.905 ; -9.525,1.905 -8.255,1.905 -8.255,2.54 -8.89,3.175 -6.35,3.175 -6.985,2.54 -6.985,1.905 -5.715,1.905 ; -5.715,-2.54 -1.905,-2.54 ; -5.715,-2.54 -5.715,1.905 ; -5.715,-2.54 -5.715,1.905 ; -5.715,1.905 -4.445,1.905 -4.445,2.54 -5.08,3.175 -2.54,3.175 -3.175,2.54 -3.175,1.905 -1.905,1.905 ; -1.905,-2.54 1.905,-2.54 ; -1.905,-2.54 -1.905,1.905 ; -1.905,-2.54 -1.905,1.905 ; -1.905,1.905 -0.635,1.905 -0.635,2.54 -1.27,3.175 1.27,3.175 0.635,2.54 0.635,1.905 1.905,1.905 ; 1.905,-2.54 5.715,-2.54 ; 1.905,-2.54 1.905,1.905 ; 1.905,-2.54 1.905,1.905 ; 1.905,1.905 3.175,1.905 3.175,2.54 2.54,3.175 5.08,3.175 4.445,2.54 4.445,1.905 5.715,1.905 ; 5.715,-2.54 9.525,-2.54 ; 5.715,-2.54 5.715,1.905 ; 5.715,-2.54 5.715,1.905 ; 5.715,1.905 6.985,1.905 6.985,2.54 6.35,3.175 8.89,3.175 8.255,2.54 8.255,1.905 9.525,1.905 ; 9.525,-2.54 13.335,-2.54 ; 9.525,-2.54 9.525,1.905 ; 9.525,-2.54 9.525,1.905 ; 9.525,1.905 10.795,1.905 10.795,2.54 10.16,3.175 12.7,3.175 12.065,2.54 12.065,1.905 13.335,1.905 ; 13.335,-2.54 17.145,-2.54 ; 13.335,-2.54 13.335,1.905 ; 13.335,-2.54 13.335,1.905 ; 13.335,1.905 14.605,1.905 14.605,2.54 13.97,3.175 16.51,3.175 15.875,2.54 15.875,1.905 17.145,1.905 ; 17.145,-2.54 17.145,1.905 ; 17.145,-2.54 17.145,1.905
Mechanical 4:
  circle w0.1: c3.81,0 r1.016
  circle w0.1: c0,0 r1.016
  circle w0.1: c-3.81,0 r1.016
  circle w0.1: c-7.62,0 r1.016
  circle w0.1: c-11.43,0 r1.016
  circle w0.1: c7.62,0 r1.016
  circle w0.1: c11.43,0 r1.016
  circle w0.1: c15.23,0 r1.016
  lines w0.1: -16.256,-1.016 -16.256,1.016 -14.224,1.016 -14.224,-1.016 -16.256,-1.016
Mechanical 13:
  text ".Designator" at -8.255,-6.985 h1
3D body: height 19, standoff 9, extent -17.695,-6.096 17.653,4.572
3D body: height 9.2, standoff 0, extent -17.695,-3 17.695,4
3D body: height 6, standoff 1, extent -17.653,-7.874 -17.145,1.016
3D body: height 6, standoff 1, extent 9.271,-7.874 9.779,1.016
3D body: height 3.5, standoff 2.5, extent 3.285,-8 4.281,0
3D body: height 3.5, standoff 2.5, extent -0.515,-8 0.481,0
3D body: height 3.5, standoff 2.5, extent -4.315,-8 -3.319,0
3D body: height 3.5, standoff 2.5, extent -8.115,-8 -7.119,0
3D body: height 3.5, standoff 2.5, extent -11.913,-8 -10.917,0
3D body: height 3.5, standoff 2.5, extent -15.715,-8 -14.719,0
3D body: height 6, standoff 1, extent -17.695,0.762 17.695,1.27
3D body: height 6, standoff 1, extent -17.653,-7.874 -17.145,1.016
3D body: height 6, standoff 1, extent 5.461,-7.874 5.969,1.016
3D body: height 6, standoff 1, extent 1.651,-7.874 2.159,1.016
3D body: height 6, standoff 1, extent -2.159,-7.874 -1.651,1.016
3D body: height 6, standoff 1, extent -5.969,-7.874 -5.461,1.016
3D body: height 6, standoff 1, extent -9.779,-7.874 -9.271,1.016
3D body: height 6, standoff 1, extent -13.589,-7.874 -13.081,1.016
3D body: height 7, standoff 6, extent -17.715,-8 17.695,1.2
3D body: height 1, standoff 0, extent -17.715,-8 17.695,1.2
3D body: height 3.5, standoff 2.5, extent 7.105,-8 8.101,0
3D body: height 3.5, standoff 2.5, extent 10.905,-8 11.901,0
3D body: height 3.5, standoff 2.5, extent 14.715,-8 15.711,0
3D body: height 6, standoff 1, extent 13.081,-7.874 13.589,1.016
3D body: height 6, standoff 1, extent 17.171,-7.874 17.679,1.016

## 15EDGRC-3.81-10 [mm]
pads (10):
  rrect50% 2x2 hole 1.2: 1(-17.145,0)
  round 2 hole 1.2: 2(-13.335,0) 3(-9.525,0) 4(-5.715,0) 5(-1.905,0) 6(1.905,0) 7(5.715,0) 8(9.525,0) 9(13.335,0) 10(17.145,0)
Mechanical 1:
  lines w0.1: -19.6,-3 19.6,-3 ; -19.6,1.2 -19.6,4 19.6,4 19.6,1.2 ; -19.6,1.2 -19.6,-8 19.6,-8 19.6,1.2 ; -19.6,1.2 19.6,1.2 ; -15.24,-2.54 -15.24,1.905 ; -15.24,-2.54 -19.05,-2.54 -19.05,1.905 -17.78,1.905 -17.78,2.54 -18.415,3.175 -15.875,3.175 -16.51,2.54 -16.51,1.905 -15.24,1.905 ; -15.24,-2.54 -15.24,1.905 ; -15.24,-2.54 -11.43,-2.54 ; -15.24,1.905 -13.97,1.905 -13.97,2.54 -14.605,3.175 -12.065,3.175 -12.7,2.54 -12.7,1.905 -11.43,1.905 ; -11.43,-2.54 -11.43,1.905 ; -11.43,-2.54 -11.43,1.905 ; -11.43,-2.54 -7.62,-2.54 ; -11.43,1.905 -10.16,1.905 -10.16,2.54 -10.795,3.175 -8.255,3.175 -8.89,2.54 -8.89,1.905 -7.62,1.905 ; -7.62,-2.54 -7.62,1.905 ; -7.62,-2.54 -7.62,1.905 ; -7.62,-2.54 -3.81,-2.54 ; -7.62,1.905 -6.35,1.905 -6.35,2.54 -6.985,3.175 -4.445,3.175 -5.08,2.54 -5.08,1.905 -3.81,1.905 ; -3.81,-2.54 -3.81,1.905 ; -3.81,-2.54 -3.81,1.905 ; -3.81,-2.54 0,-2.54 ; -3.81,1.905 -2.54,1.905 -2.54,2.54 -3.175,3.175 -0.635,3.175 -1.27,2.54 -1.27,1.905 0,1.905 ; 0,-2.54 0,1.905 ; 0,-2.54 0,1.905 ; 0,-2.54 3.81,-2.54 ; 0,1.905 1.27,1.905 1.27,2.54 0.635,3.175 3.175,3.175 2.54,2.54 2.54,1.905 3.81,1.905 ; 3.81,-2.54 3.81,1.905 ; 3.81,-2.54 3.81,1.905 ; 3.81,-2.54 7.62,-2.54 ; 3.81,1.905 5.08,1.905 5.08,2.54 4.445,3.175 6.985,3.175 6.35,2.54 6.35,1.905 7.62,1.905 ; 7.62,-2.54 7.62,1.905 ; 7.62,-2.54 7.62,1.905 ; 7.62,-2.54 11.43,-2.54 ; 7.62,1.905 8.89,1.905 8.89,2.54 8.255,3.175 10.795,3.175 10.16,2.54 10.16,1.905 11.43,1.905 ; 11.43,-2.54 11.43,1.905 ; 11.43,-2.54 11.43,1.905 ; 11.43,-2.54 15.24,-2.54 ; 11.43,1.905 12.7,1.905 12.7,2.54 12.065,3.175 14.605,3.175 13.97,2.54 13.97,1.905 15.24,1.905 ; 15.24,-2.54 15.24,1.905 ; 15.24,-2.54 15.24,1.905 ; 15.24,-2.54 19.05,-2.54 19.05,1.905 17.78,1.905 17.78,2.54 18.415,3.175 15.875,3.175 16.51,2.54 16.51,1.905 15.24,1.905
Mechanical 4:
  circle w0.1: c17.125,0 r1.016
  circle w0.1: c13.325,0 r1.016
  circle w0.1: c9.525,0 r1.016
  circle w0.1: c5.715,0 r1.016
  circle w0.1: c-13.335,0 r1.016
  circle w0.1: c-9.525,0 r1.016
  circle w0.1: c-5.715,0 r1.016
  circle w0.1: c-1.905,0 r1.016
  circle w0.1: c1.905,0 r1.016
  lines w0.1: -18.161,-1.016 -16.129,-1.016 -16.129,1.016 -18.161,1.016 -18.161,-1.016
Mechanical 13:
  text ".Designator" at -10.16,-6.985 h1
3D body: height 19, standoff 9, extent -19.6,-6 19.6,4.5
3D body: height 6, standoff 1, extent 18.866,-7.874 19.374,1.016
3D body: height 6, standoff 1, extent 15.266,-7.874 15.774,1.016
3D body: height 6, standoff 1, extent 11.266,-7.874 11.774,1.016
3D body: height 3.5, standoff 2.5, extent 16.62,-8 17.616,0
3D body: height 3.5, standoff 2.5, extent 12.81,-8 13.806,0
3D body: height 3.5, standoff 2.5, extent 9,-8 9.996,0
3D body: height 3.5, standoff 2.5, extent 5.2,-8 6.196,0
3D body: height 1, standoff 0, extent -19.62,-8 19.6,1.2
3D body: height 7, standoff 6, extent -19.62,-8 19.6,1.2
3D body: height 6, standoff 1, extent -15.494,-7.874 -14.986,1.016
3D body: height 6, standoff 1, extent -11.684,-7.874 -11.176,1.016
3D body: height 6, standoff 1, extent -7.874,-7.874 -7.366,1.016
3D body: height 6, standoff 1, extent -4.064,-7.874 -3.556,1.016
3D body: height 6, standoff 1, extent -0.254,-7.874 0.254,1.016
3D body: height 6, standoff 1, extent 3.81,-7.874 4.318,1.016
3D body: height 6, standoff 1, extent -19.558,-7.874 -19.05,1.016
3D body: height 6, standoff 1, extent -19.62,0.8 19.6,1.2
3D body: height 3.5, standoff 2.5, extent -17.62,-8 -16.624,0
3D body: height 3.5, standoff 2.5, extent -13.818,-8 -12.822,0
3D body: height 3.5, standoff 2.5, extent -10.02,-8 -9.024,0
3D body: height 3.5, standoff 2.5, extent -6.22,-8 -5.224,0
3D body: height 3.5, standoff 2.5, extent -2.42,-8 -1.424,0
3D body: height 3.5, standoff 2.5, extent 1.38,-8 2.376,0
3D body: height 6, standoff 1, extent 7.366,-7.874 7.874,1.016
3D body: height 6, standoff 1, extent -19.558,-7.874 -19.05,1.016
3D body: height 9.2, standoff 0, extent -19.6,-3 19.6,4

## 15EDGRC-3.81-12 [mm]
pads (12):
  rrect50% 2x2 hole 1.2: 1(-20.955,0)
  round 2 hole 1.2: 2(-17.145,0) 3(-13.335,0) 4(-9.525,0) 5(-5.715,0) 6(-1.905,0) 7(1.905,0) 8(5.715,0) 9(9.525,0) 10(13.335,0) 11(17.145,0) 12(20.955,0)
Mechanical 1:
  lines w0.1: -23.4,-3 23.4,-3 ; -23.4,1.2 -23.4,-8 23.4,-8 23.4,1.2 ; -23.4,1.2 23.4,1.2 ; -23.4,1.2 -23.4,4 23.4,4 23.4,1.2 ; -19.05,-2.54 -19.05,1.905 ; -19.05,-2.54 -22.86,-2.54 -22.86,1.905 -21.59,1.905 -21.59,2.54 -22.225,3.175 -19.685,3.175 -20.32,2.54 -20.32,1.905 -19.05,1.905 ; -19.05,-2.54 -15.24,-2.54 ; -19.05,-2.54 -19.05,1.905 ; -19.05,1.905 -17.78,1.905 -17.78,2.54 -18.415,3.175 -15.875,3.175 -16.51,2.54 -16.51,1.905 -15.24,1.905 ; -15.24,-2.54 -15.24,1.905 ; -15.24,-2.54 -11.43,-2.54 ; -15.24,-2.54 -15.24,1.905 ; -15.24,1.905 -13.97,1.905 -13.97,2.54 -14.605,3.175 -12.065,3.175 -12.7,2.54 -12.7,1.905 -11.43,1.905 ; -11.43,-2.54 -11.43,1.905 ; -11.43,-2.54 -7.62,-2.54 ; -11.43,-2.54 -11.43,1.905 ; -11.43,1.905 -10.16,1.905 -10.16,2.54 -10.795,3.175 -8.255,3.175 -8.89,2.54 -8.89,1.905 -7.62,1.905 ; -7.62,-2.54 -7.62,1.905 ; -7.62,-2.54 -3.81,-2.54 ; -7.62,-2.54 -7.62,1.905 ; -7.62,1.905 -6.35,1.905 -6.35,2.54 -6.985,3.175 -4.445,3.175 -5.08,2.54 -5.08,1.905 -3.81,1.905 ; -3.81,-2.54 -3.81,1.905 ; -3.81,-2.54 0,-2.54 ; -3.81,-2.54 -3.81,1.905 ; -3.81,1.905 -2.54,1.905 -2.54,2.54 -3.175,3.175 -0.635,3.175 -1.27,2.54 -1.27,1.905 0,1.905 ; 0,-2.54 0,1.905 ; 0,-2.54 3.81,-2.54 ; 0,-2.54 0,1.905 ; 0,1.905 1.27,1.905 1.27,2.54 0.635,3.175 3.175,3.175 2.54,2.54 2.54,1.905 3.81,1.905 ; 3.81,-2.54 3.81,1.905 ; 3.81,-2.54 7.62,-2.54 ; 3.81,-2.54 3.81,1.905 ; 3.81,1.905 5.08,1.905 5.08,2.54 4.445,3.175 6.985,3.175 6.35,2.54 6.35,1.905 7.62,1.905 ; 7.62,-2.54 7.62,1.905 ; 7.62,-2.54 11.43,-2.54 ; 7.62,-2.54 7.62,1.905 ; 7.62,1.905 8.89,1.905 8.89,2.54 8.255,3.175 10.795,3.175 10.16,2.54 10.16,1.905 11.43,1.905 ; 11.43,-2.54 11.43,1.905 ; 11.43,-2.54 15.24,-2.54 ; 11.43,-2.54 11.43,1.905 ; 11.43,1.905 12.7,1.905 12.7,2.54 12.065,3.175 14.605,3.175 13.97,2.54 13.97,1.905 15.24,1.905 ; 15.24,-2.54 15.24,1.905 ; 15.24,-2.54 19.05,-2.54 ; 15.24,-2.54 15.24,1.905 ; 15.24,1.905 16.51,1.905 16.51,2.54 15.875,3.175 18.415,3.175 17.78,2.54 17.78,1.905 19.05,1.905 ; 19.05,-2.54 19.05,1.905 ; 19.05,-2.54 22.86,-2.54 22.86,1.905 21.59,1.905 21.59,2.54 22.225,3.175 19.685,3.175 20.32,2.54 20.32,1.905 19.05,1.905 ; 19.05,-2.54 19.05,1.905
Mechanical 4:
  circle w0.1: c5.715,0 r1.016
  circle w0.1: c1.905,0 r1.016
  circle w0.1: c-17.145,0 r1.016
  circle w0.1: c-13.335,0 r1.016
  circle w0.1: c-9.525,0 r1.016
  circle w0.1: c-5.715,0 r1.016
  circle w0.1: c-1.905,0 r1.016
  circle w0.1: c13.395,0 r1.016
  circle w0.1: c9.585,0 r1.016
  circle w0.1: c17.205,0 r1.016
  circle w0.1: c21.015,0 r1.016
  lines w0.1: -21.971,-1.016 -19.939,-1.016 -19.939,1.016 -21.971,1.016 -21.971,-1.016
Mechanical 13:
  text ".Designator" at -13.97,-6.985 h1
3D body: height 6, standoff 1, extent 18.956,-7.874 19.464,1.016
3D body: height 6, standoff 1, extent 15.056,-7.874 15.564,1.016
3D body: height 6, standoff 1, extent 11.456,-7.874 11.964,1.016
3D body: height 6, standoff 1, extent 7.456,-7.874 7.964,1.016
3D body: height 3.5, standoff 2.5, extent 20.43,-8 21.426,0
3D body: height 3.5, standoff 2.5, extent 16.62,-8 17.616,0
3D body: height 3.5, standoff 2.5, extent 12.81,-8 13.806,0
3D body: height 3.5, standoff 2.5, extent 9,-8 9.996,0
3D body: height 3.5, standoff 2.5, extent 5.19,-8 6.186,0
3D body: height 3.5, standoff 2.5, extent 1.39,-8 2.386,0
3D body: height 1, standoff 0, extent -23.43,-8 23.28,1.2
3D body: height 7, standoff 6, extent -23.43,-8 23.28,1.2
3D body: height 6, standoff 1, extent -19.304,-7.874 -18.796,1.016
3D body: height 6, standoff 1, extent -15.494,-7.874 -14.986,1.016
3D body: height 6, standoff 1, extent -11.684,-7.874 -11.176,1.016
3D body: height 6, standoff 1, extent -7.874,-7.874 -7.366,1.016
3D body: height 6, standoff 1, extent -4.064,-7.874 -3.556,1.016
3D body: height 6, standoff 1, extent 0,-7.874 0.508,1.016
3D body: height 6, standoff 1, extent -23.368,-7.874 -22.86,1.016
3D body: height 6, standoff 1, extent -23.43,0.8 23.28,1.2
3D body: height 3.5, standoff 2.5, extent -21.43,-8 -20.434,0
3D body: height 3.5, standoff 2.5, extent -17.628,-8 -16.632,0
3D body: height 3.5, standoff 2.5, extent -13.83,-8 -12.834,0
3D body: height 3.5, standoff 2.5, extent -10.03,-8 -9.034,0
3D body: height 3.5, standoff 2.5, extent -6.23,-8 -5.234,0
3D body: height 3.5, standoff 2.5, extent -2.43,-8 -1.434,0
3D body: height 6, standoff 1, extent 3.556,-7.874 4.064,1.016
3D body: height 6, standoff 1, extent -23.368,-7.874 -22.86,1.016
3D body: height 6, standoff 1, extent 22.726,-7.945 23.234,0.945
3D body: height 9.2, standoff 0, extent -23.4,-3 23.4,4
3D body: height 19, standoff 9, extent -23.4,-6 23.4,4.5